# Altium schematic symbol library eeprom(11LC040T-E-TT).SchLib: 1 symbol
Pins are listed as number, name and electrical type; pins without a type are passive.

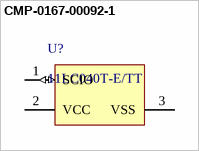
[diagram p0: symbol CMP-0167-00092-1]

## CMP-0167-00092-1
designator U?, comment 11LC040T-E/TT
4 K bit UNI/O® Serial EEPROM, 2.5 to 5.5 V, 100 kHz, -40 to 125 degC, 3-pin SOT-23 (TT3), Tape and Reel; Manufacturer: Microchip; PackageDescription: 3-Lead Plastic Small Outline Transistor, 2.9 x 1.3 mm Body, 0.95 mm Pitch; ComponentLink4URL: http://www.microchip.com/11LC040; PartNumber: 11LC040T-E/TT; ComponentLink2Description: Datasheet; PackageVersion: C04-104B; ComponentLink2URL: http://ww1.microchip.com/downloads/en/DeviceDoc/22067J.pdf; ComponentLink1URL: http://www.microchip.com; ComponentLink4Description: Product URL; PackageReference: SOT-23-TT3; Mounting Technology: Surface Mount; DatasheetVersion: Rev. J; ComponentLink1Description: Manufacturer URL; ComponentLink3Description: Package Specification; ComponentLink3URL: http://www.microchip.com/stellent/groups/techpub_sg/documents/packagingspec/en012702.pdf
footprint MCHP-SOT-23-TT3_N (SOT23, 3-Leads, Body 2.86x1.28mm, Pitch 0.95mm, IPC Medium Density)
footprint MCHP-SOT-23-TT3_L (SOT23, 3-Leads, Body 2.86x1.28mm, Pitch 0.95mm, IPC High Density)
footprint MCHP-SOT-23-TT3_M (SOT23, 3-Leads, Body 2.86x1.28mm, Pitch 0.95mm, IPC Low Density)
pins: 1 SCIO (io) "Serial Clock, Data Input/Output", 2 VCC (power) "Ground", 3 VSS (power) "Supply Voltage"